# Altium footprint library SAMTEC_TMS-101-60-S-S.PcbLib: 1 footprints
Each footprint in its own frame and in the unit in brackets; x right, y up, seen from the top. Pads: shape width x height; smd on the part's side, far side on the other; paste and mask are expansions set on the pad; w line width, h text height; cw(c..) or ccw(c..) is an arc to the next point about the centre after c.
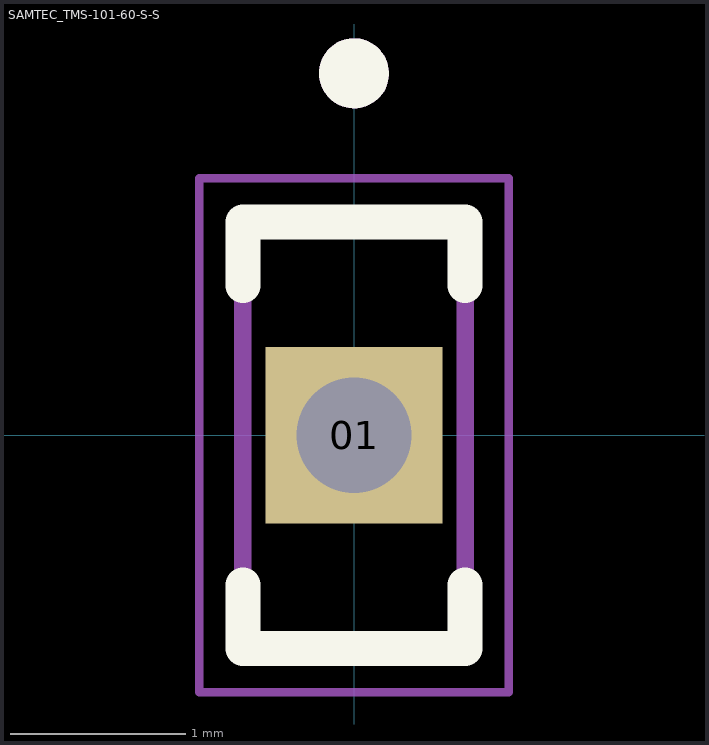
[diagram p0: the footprint, top view; thin cyan lines are the x and y axes]

## SAMTEC_TMS-101-60-S-S [mm]
pads (1):
  rect 1.01x1.01 hole 0.66: 01(0,0)
Top Overlay:
  circle w0.2: c0,2.069 r0.1
  lines w0.2: -0.635,-0.855 -0.635,-1.219 0.635,-1.219 0.635,-0.855 ; -0.635,0.855 -0.635,1.219 0.635,1.219 0.635,0.855
Mechanical 13:
  circle w0.2: c0,2.069 r0.1
  lines w0.1: -0.635,-1.219 0.635,-1.219 0.635,1.219 -0.635,1.219 -0.635,-1.219
Mechanical 15:
  lines w0.05: -0.885,-1.469 -0.885,1.469 0.885,1.469 0.885,-1.469 -0.885,-1.469